# EAGLE library part DS2409 (library 1wire)
MicroLAN Coupler This device allows to create star-topology networks of onewire devices. The idea of this chip is to switch branches of a star-topology network so the resulting network is always a bus (with short stubs only), as only bus-topology onewire networks work properly. The 1W_IN pin is the connection to the network backbone on the host side. The 1W_OUT pin connects to the backbone, too, but on the far side. The 1W_AUX pin is the network branch connection. The CO output pin can be controlled by software or automatically switched on/off whenever the 1W_OUT or 1W_AUX pin (configureable by software) is connected to the 1W_IN pin. The drive load for this pin is 10mA. Up to one dozen DS2409 chips may be cascaded on both backbone and branch line. Author: Jan Kandziora <jjj@gmx.de>
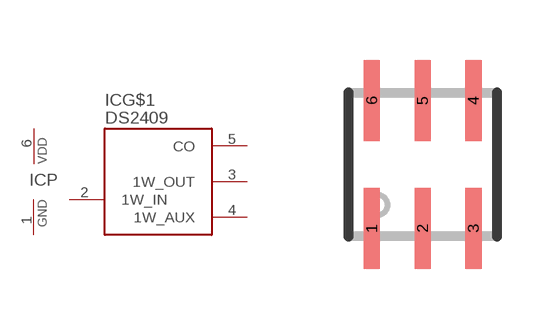
[diagram p1: symbol with the pads of TSOC6; footprint TSOC6]

Designator prefix IC; gates G$1=DS2409 P=VDD-GND

## DS2409P  [TSOC6]
1  P:GND  pwr
2  G$1:1W_IN  oc
3  G$1:1W_OUT  oc
4  G$1:1W_AUX  oc
5  G$1:CO  oc
6  P:VDD  pwr

## Footprint TSOC6 (pad centres in mm)
TSOC 6
smd 0.406 x 2.032: 1 -1.27,-1.6; 2 0,-1.6; 3 1.27,-1.6; 4 1.27,1.6; 5 0,1.6; 6 -1.27,1.6